# EAGLE library part 84-PGM10003-10 (library 84-PGM10003-10)
IC & Component Sockets Source: Datasheet <https://www.mouser.com/datasheet/2/35/14033-pga-socket-header-1225729.pdf>
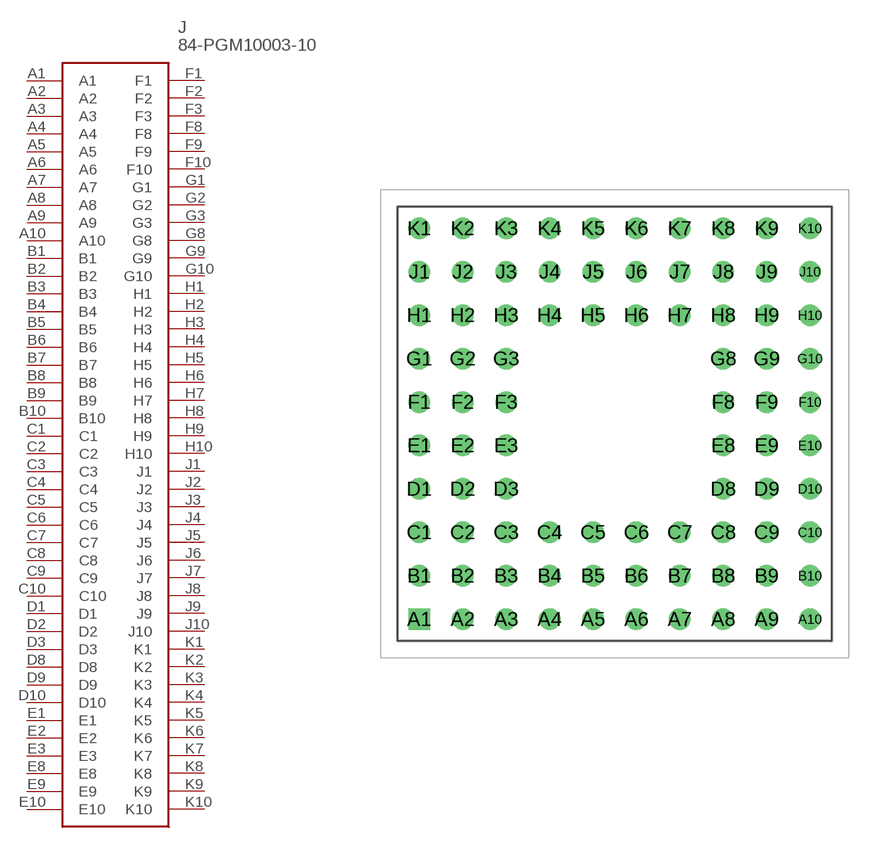
[diagram p0: symbol with the pads of 84PGM1000310; footprint 84PGM1000310]

Designator prefix J

## 84-PGM10003-10 (Description: IC & Component Sockets; Height: 2.54mm; Manufacturer_Name: ARIES; Manufacturer_Part_Number: 84-PGM10003-10; Mouser_Part_Number: 535-84-PGM10003-10; Mouser_Price-Stock: https://www.mouser.co.uk/ProductDetail/Aries-Electronics/84-PGM10003-10?qs=qSpSzuzdqG1nXI7PUrUMAg%3D%3D)  [84PGM1000310]
A1  A1
A2  A2
A3  A3
A4  A4
A5  A5
A6  A6
A7  A7
A8  A8
A9  A9
A10  A10
B1  B1
B2  B2
B3  B3
B4  B4
B5  B5
B6  B6
B7  B7
B8  B8
B9  B9
B10  B10
C1  C1
C2  C2
C3  C3
C4  C4
C5  C5
C6  C6
C7  C7
C8  C8
C9  C9
C10  C10
D1  D1
D2  D2
D3  D3
D8  D8
D9  D9
D10  D10
E1  E1
E2  E2
E3  E3
E8  E8
E9  E9
E10  E10
F1  F1
F2  F2
F3  F3
F8  F8
F9  F9
F10  F10
G1  G1
G2  G2
G3  G3
G8  G8
G9  G9
G10  G10
H1  H1
H2  H2
H3  H3
H4  H4
H5  H5
H6  H6
H7  H7
H8  H8
H9  H9
H10  H10
J1  J1
J2  J2
J3  J3
J4  J4
J5  J5
J6  J6
J7  J7
J8  J8
J9  J9
J10  J10
K1  K1
K2  K2
K3  K3
K4  K4
K5  K5
K6  K6
K7  K7
K8  K8
K9  K9
K10  K10

## Footprint 84PGM1000310 (pad centres in mm)
84-PGM10003-10
drill 0.75 pad 1.2 square: A1 0,0
drill 0.75 pad 1.2: A2 2.54,0; A3 5.08,0; A4 7.62,0; A5 10.16,0; A6 12.7,0; A7 15.24,0; A8 17.78,0; A9 20.32,0; A10 22.86,0; B1 0,2.54; B2 2.54,2.54; B3 5.08,2.54; B4 7.62,2.54; B5 10.16,2.54; B6 12.7,2.54; B7 15.24,2.54; B8 17.78,2.54; B9 20.32,2.54; B10 22.86,2.54; C1 0,5.08; C2 2.54,5.08; C3 5.08,5.08; C4 7.62,5.08; C5 10.16,5.08; C6 12.7,5.08; C7 15.24,5.08; C8 17.78,5.08; C9 20.32,5.08; C10 22.86,5.08; D1 0,7.62; D2 2.54,7.62; D3 5.08,7.62; D8 17.78,7.62; D9 20.32,7.62; D10 22.86,7.62; E1 0,10.16; E2 2.54,10.16; E3 5.08,10.16; E8 17.78,10.16; E9 20.32,10.16; E10 22.86,10.16; F1 0,12.7; F2 2.54,12.7; F3 5.08,12.7; F8 17.78,12.7; F9 20.32,12.7; F10 22.86,12.7; G1 0,15.24; G2 2.54,15.24; G3 5.08,15.24; G8 17.78,15.24; G9 20.32,15.24; G10 22.86,15.24; H1 0,17.78; H2 2.54,17.78; H3 5.08,17.78; H4 7.62,17.78; H5 10.16,17.78; H6 12.7,17.78; H7 15.24,17.78; H8 17.78,17.78; H9 20.32,17.78; H10 22.86,17.78; J1 0,20.32; J2 2.54,20.32; J3 5.08,20.32; J4 7.62,20.32; J5 10.16,20.32; J6 12.7,20.32; J7 15.24,20.32; J8 17.78,20.32; J9 20.32,20.32; J10 22.86,20.32; K1 0,22.86; K2 2.54,22.86; K3 5.08,22.86; K4 7.62,22.86; K5 10.16,22.86; K6 12.7,22.86; K7 15.24,22.86; K8 17.78,22.86; K9 20.32,22.86; K10 22.86,22.86